# Altium footprint library SAMTEC_USBR-B-S-S-O-VT.PcbLib: 1 footprints
Each footprint in its own frame and in the unit in brackets; x right, y up, seen from the top. Pads: shape width x height; smd on the part's side, far side on the other; paste and mask are expansions set on the pad; w line width, h text height; cw(c..) or ccw(c..) is an arc to the next point about the centre after c.
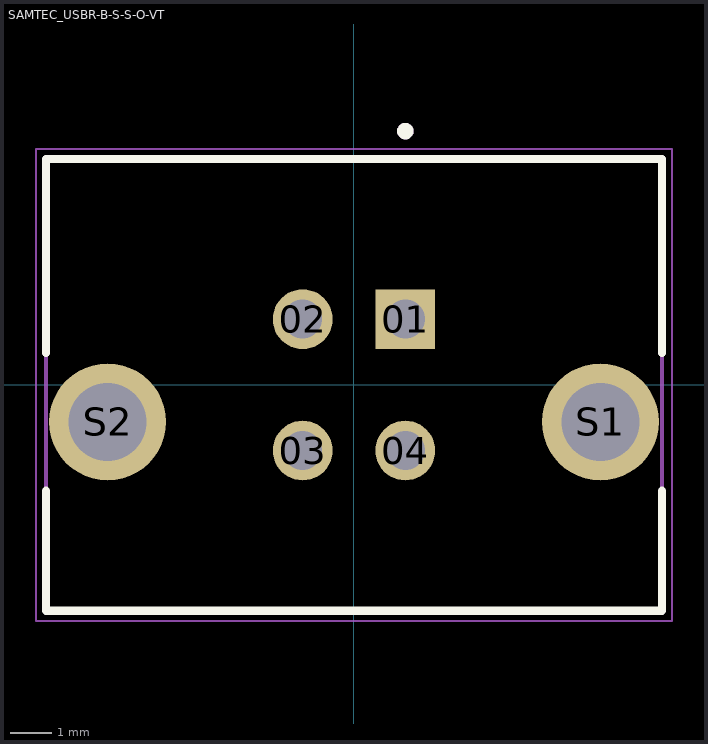
[diagram p0: the footprint, top view; thin cyan lines are the x and y axes]

## SAMTEC_USBR-B-S-S-O-VT [mm]
pads (6):
  rect 1.458x1.458 hole 0.95: 01(1.25,1.6)
  round 1.458 hole 0.95: 02(-1.25,1.6) 03(-1.25,-1.6) 04(1.25,-1.6)
  round 2.85 hole 1.9: S1(6,-0.9) S2(-6,-0.9)
Top Overlay:
  circle w0.2: c1.25,6.18 r0.1
  lines w0.2: -7.5,-2.58 -7.5,-5.5 7.5,-5.5 7.5,-2.58 ; -7.5,0.78 -7.5,5.5 7.5,5.5 7.5,0.78
Mechanical 13:
  circle w0.2: c1.25,6.18 r0.1
  lines w0.1: -7.5,-5.5 7.5,-5.5 7.5,5.5 -7.5,5.5 -7.5,-5.5
Mechanical 15:
  lines w0.05: -7.75,-5.75 7.75,-5.75 7.75,5.75 -7.75,5.75 -7.75,-5.75